# Altium footprint library library.PcbLib: 385 footprints (part 8 of 25)
Each footprint in its own frame and in the unit in brackets; x right, y up, seen from the top. Pads: shape width x height; smd on the part's side, far side on the other; paste and mask are expansions set on the pad; w line width, h text height; cw(c..) or ccw(c..) is an arc to the next point about the centre after c.
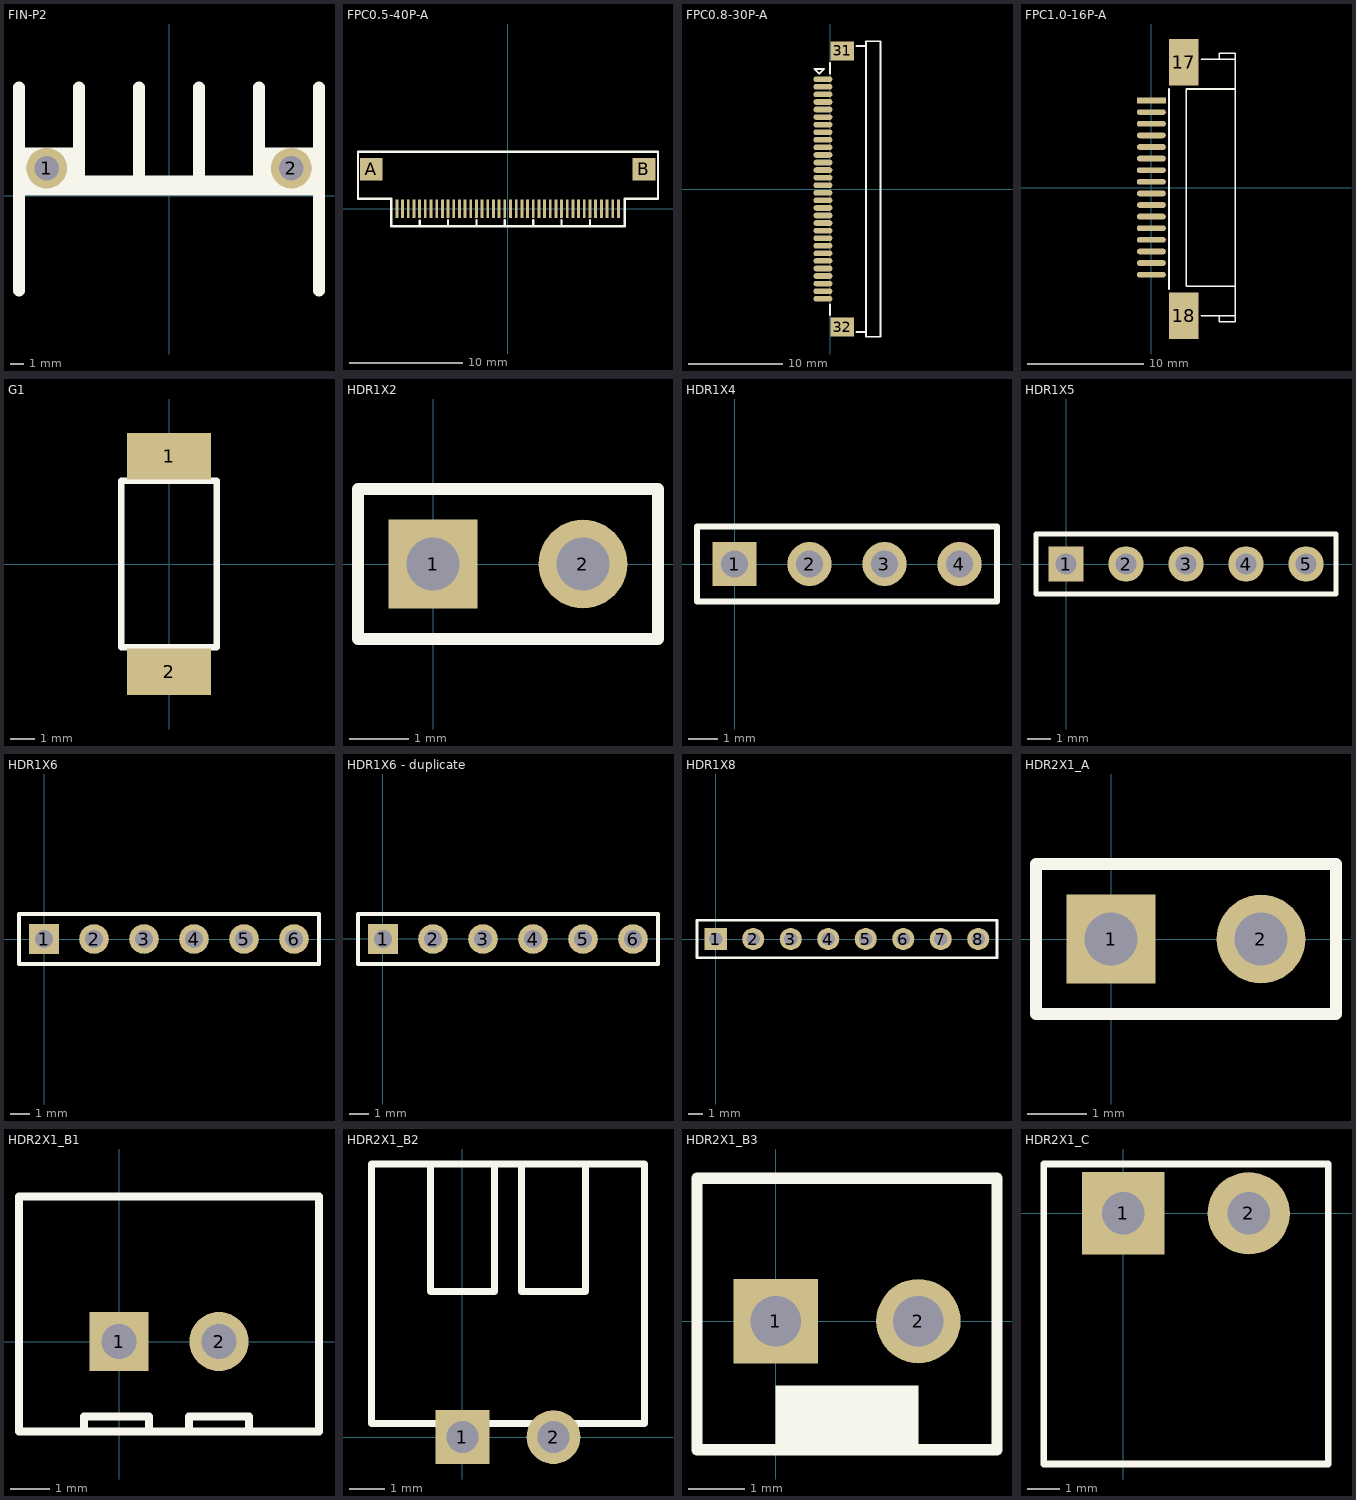
[diagram p7: the footprints below, top view; thin cyan lines are the x and y axes]

## FIN-P2 [mm] "散热片"
height 1.9
pads (2):
  round 3 hole 1.8: 1(-9.017,2.032) 2(9.017,2.032)
Top Overlay:
  rectangle: -11.049,0.889 -6.629,3.556
  rectangle: 6.629,1.27 11.049,3.556
  lines w0.85: -11.049,-7 -11.049,8 ; -6.629,0.762 -6.629,8.001 ; -2.21,0.762 -2.21,8.001 ; 2.21,0.762 2.21,8.001 ; 6.629,0.762 6.629,8.001 ; 11.049,-7 11.049,8
  lines w1.5: -10.668,0.762 10.668,0.762

## FPC0.5-40P-A [mm]
height 1
pads (42):
  rect 0.25x1.6 smd: 1(-9.78,0.011) 2(-9.28,0.011) 3(-8.78,0.011) 4(-8.28,0.011) 5(-7.78,0.011) 6(-7.28,0.011) 7(-6.78,0.011) 8(-6.28,0.011) 9(-5.78,0.011) 10(-5.28,0.011) 11(-4.78,0.011) 12(-4.28,0.011) 13(-3.78,0.011) 14(-3.28,0.011) 15(-2.78,0.011) 16(-2.28,0.011) 17(-1.78,0.011) 18(-1.28,0.011) 19(-0.78,0.011) 20(-0.28,0.011) 21(0.22,0.011) 22(0.72,0.011) 23(1.22,0.011) 24(1.72,0.011) 25(2.22,0.011) 26(2.72,0.011) 27(3.22,0.011) 28(3.72,0.011) 29(4.22,0.011) 30(4.72,0.011) 31(5.22,0.011) 32(5.72,0.011) 33(6.22,0.011) 34(6.72,0.011) 35(7.22,0.011) 36(7.72,0.011) 37(8.22,0.011) 38(8.72,0.011) 39(9.22,0.011) 40(9.72,0.011)
  rect 2x2 smd: A(-12.029,3.5) B(11.971,3.5)
Top Overlay:
  lines w0.2: -10.287,-1.524 -10.287,0.889 -13.208,0.889 -13.208,5.036 13.208,5.036 13.208,1.27 13.208,0.889 10.287,0.889 10.287,-1.514 -10.287,-1.514 ; -7.78,-1.514 -7.78,-1.014 ; -5.28,-1.514 -5.28,-0.989 ; -2.78,-1.489 -2.78,-0.989 ; -0.28,-1.464 -0.28,-0.964 ; 2.22,-1.464 2.22,-0.964 ; 4.72,-1.464 4.72,-0.964 ; 7.22,-1.464 7.22,-0.964

## FPC0.8-30P-A [mm] "FPC"
height 1.2
pads (32):
  oval 2x0.6 smd: 1(-0.762,11.6) 2(-0.762,10.8) 3(-0.762,10) 4(-0.762,9.2) 5(-0.762,8.4) 6(-0.762,7.6) 7(-0.762,6.8) 8(-0.762,6) 9(-0.762,5.2) 10(-0.762,4.4) 11(-0.762,3.6) 12(-0.762,2.8) 13(-0.762,2) 14(-0.762,1.2) 15(-0.762,0.4) 16(-0.762,-0.4) 17(-0.762,-1.2) 18(-0.762,-2) 19(-0.762,-2.8) 20(-0.762,-3.6) 21(-0.762,-4.4) 22(-0.762,-5.2) 23(-0.762,-6) 24(-0.762,-6.8) 25(-0.762,-7.6) 26(-0.762,-8.4) 27(-0.762,-9.2) 28(-0.762,-10) 29(-0.762,-10.8) 30(-0.762,-11.6)
  rect 2.5x2 smd: 31(1.27,14.605) 32(1.27,-14.605)
Top Overlay:
  lines w0.2: 0,-13.335 0,-12.192 ; 0,12.192 0,13.335 ; 2.794,-15.113 3.81,-15.113 ; 2.794,15.113 3.81,15.113 ; 3.81,-15.113 3.81,-15.621 5.334,-15.621 5.334,15.621 3.81,15.621 3.81,15.113 ; 3.81,-15.113 3.81,15.113 ; -1.651,12.7 -1.524,12.7 -0.635,12.7 -1.143,12.192 -1.651,12.7

## FPC1.0-16P-A [mm] "FPC"
height 1.2
pads (18):
  rect 2.5x0.5 smd: 1(0,7.493)
  oval 2.5x0.5 smd: 2(0,6.493) 3(0,5.493) 4(0,4.493) 5(0,3.493) 6(0,2.493) 7(0,1.493) 8(0,0.493) 9(0,-0.507) 10(0,-1.507) 11(0,-2.507) 12(0,-3.507) 13(0,-4.507) 14(0,-5.507) 15(0,-6.507) 16(0,-7.507)
  rect 2.5x4 smd: 17(2.794,10.795) 18(2.794,-11.049)
Top Overlay:
  lines w0.15: 1.524,-8.763 1.524,8.509 ; 4.318,-11.049 7.224,-11.049 ; 4.318,11.049 7.224,11.049 ; 5.842,11.049 5.842,11.557 7.224,11.557 7.224,11.049 ; 6.096,-11.049 5.842,-11.049 5.842,-11.557 7.224,-11.557 7.224,-11.049 ; 7.224,-8.507 3,-8.507 3,8.493 7.224,8.493 ; 7.224,-11.049 7.224,11.049

## G1 [mm]
pads (2):
  rect 3.45x1.9 smd: 1(0,4.4) 2(0,-4.4)
Top Overlay:
  lines w0.254: 1.9,3.4 -1.95,3.4 -1.95,0 -1.95,-3.4 1.95,-3.4 1.95,0 1.95,3.4

## HDR1X2 [mm]
pads (2):
  rect 1.5x1.5 hole 0.9: 1(0,0)
  round 1.5 hole 0.9: 2(2.54,0)
Top Overlay:
  lines w0.2: -1.27,-1.27 -1.27,1.27 3.81,1.27 3.81,-1.27 -1.27,-1.27

## HDR1X4 [mm]
pads (4):
  rect 1.5x1.5 hole 0.9: 1(0,0)
  round 1.5 hole 0.9: 2(2.54,0) 3(5.08,0) 4(7.62,0)
Top Overlay:
  lines w0.2: -1.27,-1.27 -1.27,1.27 8.89,1.27 8.89,-1.27 -1.27,-1.27

## HDR1X5 [mm]
pads (5):
  rect 1.5x1.5 hole 0.9: 1(0,0)
  round 1.5 hole 0.9: 2(2.54,0) 3(5.08,0) 4(7.62,0) 5(10.16,0)
Top Overlay:
  lines w0.2: -1.27,-1.27 11.43,-1.27 11.43,1.27 -1.27,1.27 -1.27,-1.27

## HDR1X6 [mm]
pads (6):
  rect 1.5x1.5 hole 0.9: 1(0,0)
  round 1.5 hole 0.9: 2(2.54,0) 3(5.08,0) 4(7.62,0) 5(10.16,0) 6(12.7,0)
Top Overlay:
  lines w0.2: -1.27,-1.27 -1.27,1.27 13.97,1.27 13.97,-1.27 -1.27,-1.27

## HDR1X6 - duplicate [mm]
pads (6):
  rect 1.5x1.5 hole 0.9: 1(0,0)
  round 1.5 hole 0.9: 2(2.54,0) 3(5.08,0) 4(7.62,0) 5(10.16,0) 6(12.7,0)
Top Overlay:
  lines w0.2: -1.27,-1.27 -1.27,1.27 13.97,1.27 13.97,-1.27 -1.27,-1.27

## HDR1X8 [mm]
pads (8):
  rect 1.5x1.5 hole 0.9: 1(0,0)
  round 1.5 hole 0.9: 2(2.54,0) 3(5.08,0) 4(7.62,0) 5(10.16,0) 6(12.7,0) 7(15.24,0) 8(17.78,0)
Top Overlay:
  lines w0.2: -1.27,-1.27 19.05,-1.27 19.05,1.27 -1.27,1.27 -1.27,-1.27

## HDR2X1_A [mm] "Connector; Header; 2 Position"
height 7.01
pads (2):
  rect 1.5x1.5 hole 0.9: 1(0,0)
  round 1.5 hole 0.9: 2(2.54,0)
Top Overlay:
  lines w0.2: -1.27,-1.27 3.81,-1.27 3.81,1.27 -1.27,1.27 -1.27,-1.27

## HDR2X1_B1 [mm] "Connector; Header; 4 Position"
height 1.6
pads (2):
  rect 1.5x1.5 hole 0.9: 1(0,0)
  round 1.5 hole 0.9: 2(2.54,0)
Top Overlay:
  lines w0.2: -0.889,-2.286 -0.889,-1.905 0.762,-1.905 0.762,-2.286 ; 1.778,-2.286 1.778,-1.905 3.302,-1.905 3.302,-2.286 ; -2.54,-2.286 5.08,-2.286 5.08,3.683 -2.54,3.683 -2.54,-2.286
3D body: height 1.5, standoff 0, extent -2.413,-2.159 5.08,3.556

## HDR2X1_B2 [mm] "Connector; Header; 4 Position"
height 1.6
pads (2):
  rect 1.5x1.5 hole 0.9: 1(0,0)
  round 1.5 hole 0.9: 2(2.54,0)
Top Overlay:
  lines w0.2: -0.889,7.62 -0.889,4.064 0.889,4.064 0.889,7.62 ; 1.651,7.62 1.651,4.064 3.429,4.064 3.429,7.62 ; -2.54,0.381 -2.54,7.62 5.08,7.62 5.08,0.381 -2.54,0.381
3D body: height 1.5, standoff 0, extent -2.54,0.381 5.08,7.62

## HDR2X1_B3 [mm] "Connector; Header; 4 Position"
height 1.6
pads (2):
  rect 1.5x1.5 hole 0.9: 1(0,0)
  round 1.5 hole 0.9: 2(2.54,0)
Top Overlay:
  rectangle: 0,-2.286 2.54,-1.143
  lines w0.2: -1.397,-2.286 3.937,-2.286 3.937,2.54 -1.397,2.54 -1.397,-2.286
3D body: height 1.5, standoff 0, extent -1.397,-2.286 3.937,2.54

## HDR2X1_C [mm] "3.81接插件"
height 7
pads (2):
  rect 2.5x2.5 hole 1.3: 1(0,0)
  round 2.5 hole 1.3: 2(3.81,0)
Top Overlay:
  lines w0.2: -2.413,-7.62 6.223,-7.62 6.223,1.5 -2.413,1.5 -2.413,-7.62
3D body: height 5, standoff 0, extent -2.413,-7.62 6.223,1.397